# Altium integrated library Ferrite_bead.IntLib: 4 symbols
Pins are listed as number, name and electrical type; pins without a type are passive.

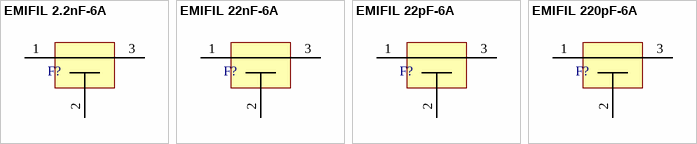
[diagram p0: symbols EMIFIL 2.2nF-6A to EMIFIL 220pF-6A]

## EMIFIL 2.2nF-6A
designator F?, comment EMIFIL  (value not drawn)
PartNumber: DSS1NB32A222Q91#
footprint EMIFIL_3PIN
pins: 1, 2, 3

## EMIFIL 22nF-6A
designator F?, comment EMIFIL  (value not drawn)
PartNumber: DSS1NB32A223Q91#
footprint EMIFIL_3PIN
pins: 1, 2, 3

## EMIFIL 22pF-6A
designator F?, comment EMIFIL  (value not drawn)
PartNumber: DSS1NB32A220Q55#
footprint EMIFIL_3PIN
pins: 1, 2, 3

## EMIFIL 220pF-6A
designator F?, comment EMIFIL  (value not drawn)
PartNumber: DSS1NB32A221Q93#
footprint EMIFIL_3PIN
pins: 1, 2, 3